# Altium footprint library Displays.PcbLib: 1 footprints
Each footprint in its own frame and in the unit in brackets; x right, y up, seen from the top. Pads: shape width x height; smd on the part's side, far side on the other; paste and mask are expansions set on the pad; w line width, h text height; cw(c..) or ccw(c..) is an arc to the next point about the centre after c.
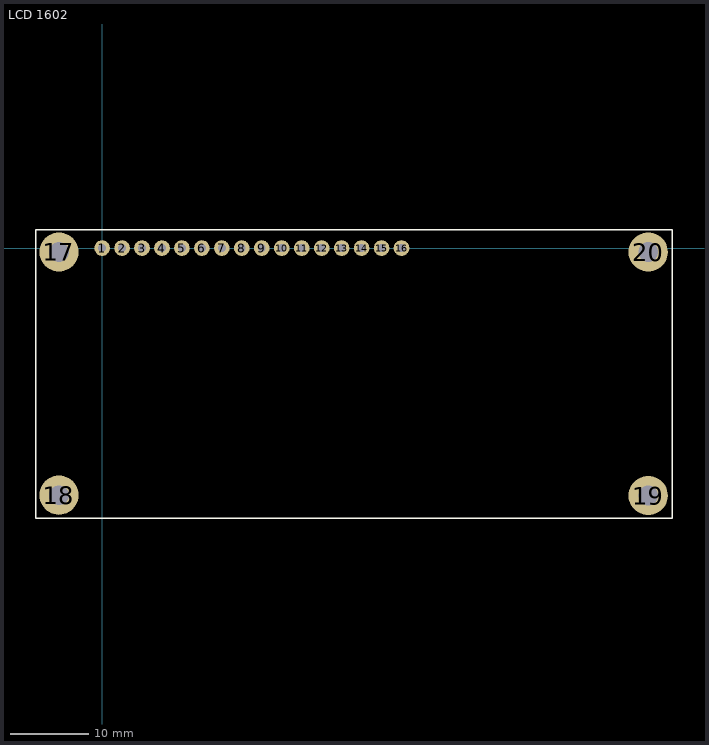
[diagram p0: the footprint, top view; thin cyan lines are the x and y axes]

## LCD 1602 [mm] "Character LCD Display Module Transflective 5 x 8 Dots STN - Super-Twisted Nematic LED - White Parallel 80.00mm x 36.00mm x 9.90mm"
pads (20):
  round 2 hole 1: 1(0,0) 2(2.54,0) 3(5.08,0) 4(7.62,0) 5(10.16,0) 6(12.7,0) 7(15.24,0) 8(17.78,0) 9(20.32,0) 10(22.86,0) 11(25.4,0) 12(27.94,0) 13(30.48,0) 14(33.02,0) 15(35.56,0) 16(38.1,0)
  round 5 hole 2.5: 17(-5.486,-0.508) 18(-5.486,-31.445) 19(69.494,-31.496) 20(69.494,-0.508)
Top Overlay:
  lines w0.2: -8.433,-34.392 72.542,-34.392 72.542,2.337 -8.077,2.337 -8.433,2.337 -8.433,-34.392
3D body "User Library-Winstar WH1602B-1.step": height 13.25, standoff 0.25, extent -7.996,-34.002 72.004,1.998
3D body "User Library-0_1inch pin strip.step": height 10.11, standoff -1.49, extent -1.27,-1.27 39.37,1.27